# Altium footprint library VHF_AMP_lib.PcbLib: 10 footprints
Each footprint in its own frame and in the unit in brackets; x right, y up, seen from the top. Pads: shape width x height; smd on the part's side, far side on the other; paste and mask are expansions set on the pad; w line width, h text height; cw(c..) or ccw(c..) is an arc to the next point about the centre after c.
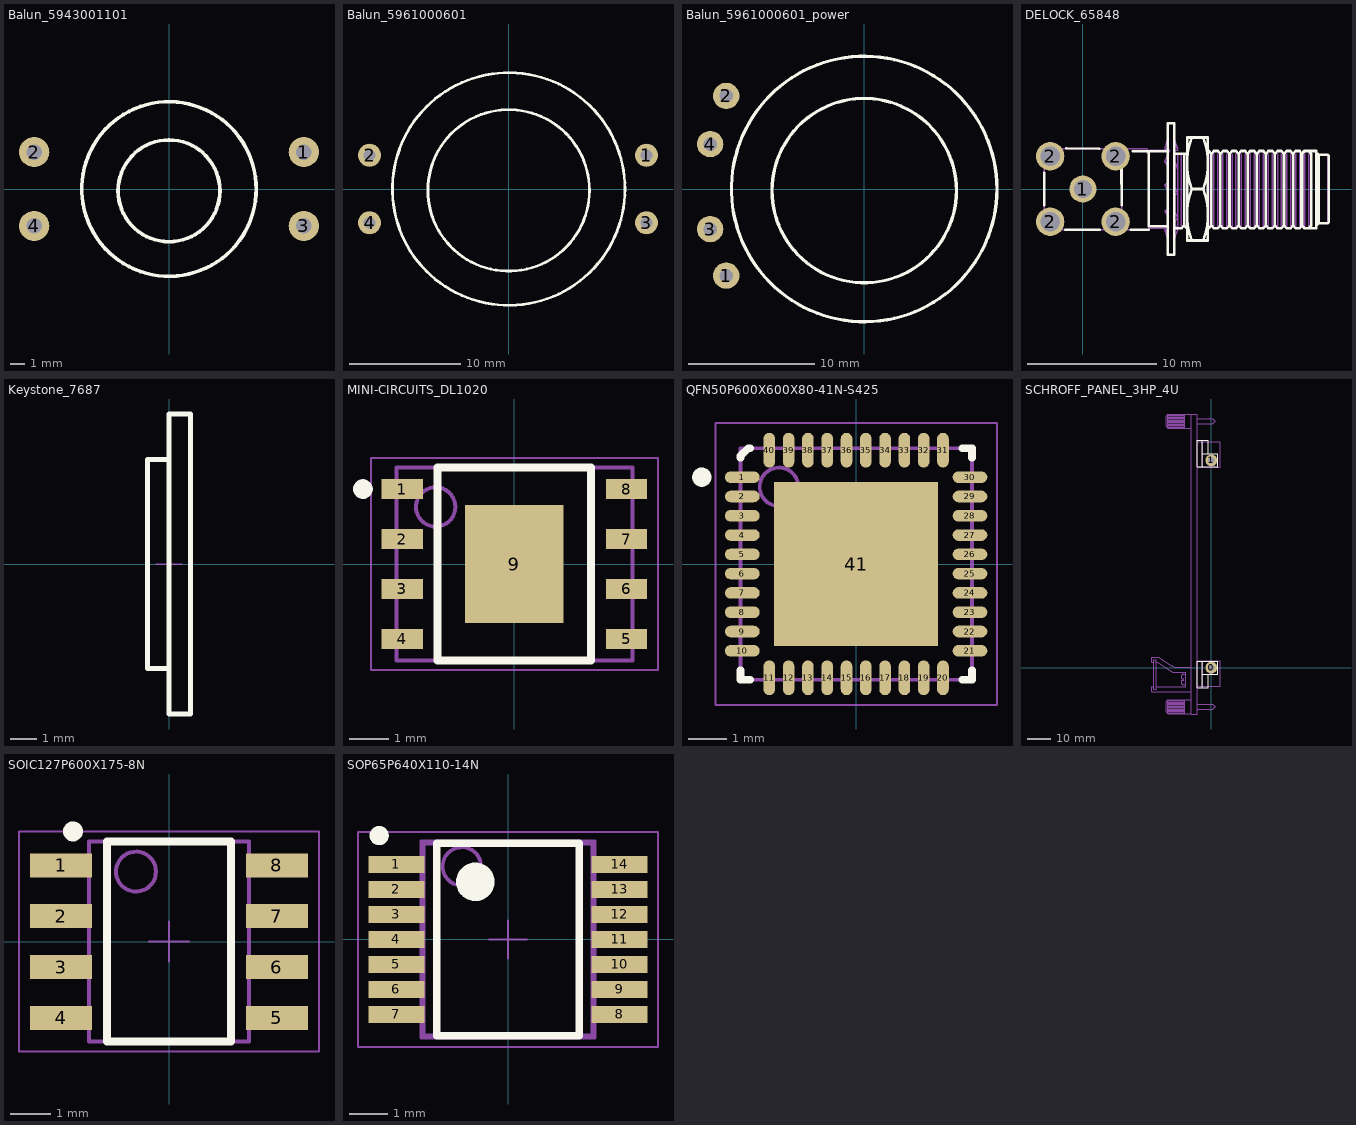
[diagram p0: the footprints below, top view; thin cyan lines are the x and y axes]

## Balun_5943001101 [mil]
pads (4):
  round 82 hole 42: 1(365,100) 2(-365,100) 3(365,-100) 4(-365,-100)
Top Overlay:
  circle w10: c0,0 r236.22
  circle w10: c0,-5 r137.8
3D body: height 236.22, standoff 0, extent -236.21,-236.21 236.23,236.23

## Balun_5961000601 [mil]
pads (4):
  round 82 hole 42: 1(490,120) 2(-495,120) 3(490,-120) 4(-495,-120)
Top Overlay:
  circle w10: c0,0 r413.67
  circle w10: c0,-5 r287.27
3D body "5943007601.stp": height 539.37, standoff 39.37, extent -435.04,-435.04 435.04,435.04

## Balun_5961000601_power [mil]
pads (4):
  round 82 hole 42: 1(-430,-270) 2(-430,290) 3(-480,-125) 4(-480,140)
Top Overlay:
  circle w10: c0,0 r413.67
  circle w10: c0,-5 r287.27
3D body "5943007601.stp": height 539.37, standoff 39.37, extent -435.04,-435.04 435.04,435.04

## DELOCK_65848 [mm] "50 Ohm Through Hole SMA Right Angle PCB Jack"
height 12.4
pads (5):
  round 2.1 hole 1.4: 1(0,0)
  round 2.2 hole 1.5: 2(-2.54,-2.54) 2(-2.54,2.54) 2(2.54,-2.54) 2(2.54,2.54)
Top Overlay:
  lines w0.2: -3,-1.25 -3,1.248 ; -1.359,-3.148 1.324,-3.148 ; -1.295,3.148 1.27,3.134 ; 2.975,3.175 3.06,3.175 ; 3,1.95 3.025,-1.265 ; 3.734,-3.148 5.1,-3.148 ; 3.873,2.925 6.6,2.925 ; 5.1,2.925 5.1,-2.9 6.6,-2.9 ; 7.1,-3.05 7.655,-3.05 7.855,-2.825 ; 7.1,2.75 8.1,2.75 ; 7.855,2.75 7.855,-2.825 ; 8.1,-3.05 8.056,-3.05 7.855,-2.825 ; 8.457,-4 cw(c13.877,-2) 8.457,0 ; 8.457,4 ccw(c13.877,2) 8.457,0 ; 9.343,-4 ccw(c3.923,-2) 9.343,0 ; 9.343,4 cw(c3.923,2) 9.343,0 ; 9.7,-3.05 9.771,-3.05 9.972,-2.825 ; 9.7,2.95 9.771,2.95 9.972,2.725 10.173,2.95 10.477,2.95 10.678,2.725 10.878,2.95 11.182,2.95 11.383,2.725 11.584,2.95 11.888,2.95 12.089,2.725 12.289,2.95 12.593,2.95 12.794,2.725 12.995,2.95 13.299,2.95 13.5,2.725 13.701,2.95 14.005,2.95 14.205,2.725 14.406,2.95 14.71,2.95 14.911,2.725 15.112,2.95 15.416,2.95 15.616,2.725 15.817,2.95 16.121,2.95 16.322,2.725 16.523,2.95 16.827,2.95 17.028,2.725 17.228,2.95 17.532,2.95 17.733,2.725 ; 9.972,2.75 9.972,-2.825 ; 10.678,2.75 10.678,-2.825 ; 11.383,2.75 11.383,-2.825 ; 12.089,2.75 12.089,-2.825 ; 12.794,2.75 12.794,-2.825 ; 13.5,2.75 13.5,-2.825 ; 14.205,2.75 14.205,-2.825 ; 14.911,2.75 14.911,-2.825 ; 15.616,2.75 15.616,-2.825 ; 16.322,2.75 16.322,-2.825 ; 16.972,2.725 17.173,2.95 18.107,2.95 18.107,-2.85 ; 16.972,2.75 16.972,-2.825 17.173,-3.05 18.107,-3.05 18.107,2.75 ; 17.028,2.75 17.028,-2.825 ; 17.733,2.75 17.733,-2.825 17.532,-3.05 17.228,-3.05 17.028,-2.825 ; 18.107,-2.858 18.3,-2.675 18.3,2.675 18.221,2.75 ; 18.3,-2.665 19,-2.665 19.1,-2.565 19.1,2.565 19,2.665 18.3,2.665 ; 8.457,0 9.343,0 ; 9.972,-2.825 10.173,-3.05 10.477,-3.05 10.678,-2.825 ; 10.678,-2.825 10.878,-3.05 11.182,-3.05 11.383,-2.825 ; 11.383,-2.825 11.584,-3.05 11.888,-3.05 12.089,-2.825 ; 12.089,-2.825 12.289,-3.05 12.593,-3.05 12.794,-2.825 ; 12.794,-2.825 12.995,-3.05 13.299,-3.05 13.5,-2.825 ; 13.5,-2.825 13.701,-3.05 14.005,-3.05 14.205,-2.825 ; 14.205,-2.825 14.406,-3.05 14.71,-3.05 14.911,-2.825 ; 14.911,-2.825 15.112,-3.05 15.416,-3.05 15.616,-2.825 ; 15.616,-2.825 15.817,-3.05 16.121,-3.05 16.322,-2.825 ; 16.322,-2.825 16.523,-3.05 16.827,-3.05 17.028,-2.825 ; 6.6,-5.1 6.6,5.1 7.1,5.1 7.1,-5.1 6.6,-5.1 ; 8.1,-4 8.1,4 9.7,4 9.7,-4 8.1,-4
Mechanical 8:
  lines w0.1: -3.2,-2.03 -2.03,-2.03 ; -3.2,2.03 -2.03,2.03 ; -3.04,-2.54 -2.54,-2.54 ; -3.04,2.54 -2.54,2.54 ; -2.54,-3.04 -2.54,-2.54 ; -2.54,-2.04 -2.54,-2.54 ; -2.54,2.04 -2.54,2.54 ; -2.54,3.04 -2.54,2.54 ; -2.04,-2.54 -2.54,-2.54 ; -2.04,2.54 -2.54,2.54 ; -0.5,0 0,0 ; 0,-0.5 0,0 ; 0,0.5 0,0 ; 0.5,0 0,0 ; 2.03,2.03 3,2.03 ; 2.04,-2.54 2.54,-2.54 ; 2.04,2.54 2.54,2.54 ; 2.54,-3.04 2.54,-2.54 ; 2.54,-2.04 2.54,-2.54 ; 2.54,2.04 2.54,2.54 ; 2.54,3.04 2.54,2.54 ; 3.04,-2.54 2.54,-2.54 ; 3.04,2.54 2.54,2.54
Mechanical 14:
  drawing of 155 lines, arcs and shapes, not listed
3D body "SMA_Delock_65848.step": height 9.15, standoff -2.99, extent -3.04,-3.174 18.96,3.094

## Keystone_7687 [mm] "Polyphenylene Sulfide PPS Shoulder Washer"
height 8
Top Overlay:
  lines w0.2: 0,-3.9 -0.8,-3.9 -0.8,3.9 0,3.9 ; 0,-5.6 0,5.6 0.8,5.6 0.8,-5.6 0,-5.6
Mechanical 8:
  lines w0.05: -0.5,0 0,0 ; 0,-0.5 0,0 ; 0,0.5 0,0 ; 0.5,0 0,0
Mechanical 14:
  lines w0.1: 0,-3.9 -0.8,-3.9 -0.8,3.9 0,3.9 ; 0,-5.6 0,5.6 0.8,5.6 0.8,-5.6 0,-5.6

## MINI-CIRCUITS_DL1020 [mm] "SON, 1.27mm Pitch; 8 Pin, 6mm W X 4.9mm L X 0.90mm H body (w/Thermal Tab 2.5 X 3.0mm), IPC Medium Density"
height 0.9
pads (9):
  rect 1.05x0.5 smd: 1(-2.85,1.905) 2(-2.85,0.635) 3(-2.85,-0.635) 4(-2.85,-1.905) 5(2.85,-1.905) 6(2.85,-0.635) 7(2.85,0.635) 8(2.85,1.905)
  rect 2.5x3 smd: 9(0,0)
Top Overlay:
  circle w0.25: c-3.85,1.905 r0.125
  lines w0.2: -1.95,-2.45 1.95,-2.45 1.95,2.45 -1.95,2.45 -1.95,-2.45
Mechanical 8:
  lines w0.05: -0.5,0 0.5,0 ; 0,-0.5 0,0.5
Mechanical 14:
  circle w0.1: c-2,1.45 r0.5
  lines w0.1: -3,-2.45 3,-2.45 3,2.45 -3,2.45 -3,-2.45
Mechanical 15:
  lines w0.05: -3.65,-2.7 3.65,-2.7 3.65,2.7 -3.65,2.7 -3.65,-2.7
3D body "MINI-CIRCUITS_DL1020.stp": height 0.9, standoff 0, extent -3,-2.45 3,2.45

## QFN50P600X600X80-41N-S425 [mm] "QFN, 0.50mm Pitch, Square; 40 Pin, 6.00mm L X 6.00mm W X 0.80mm H body (w/Thermal Tab 4.25 x 4.25mm), IPC Medium Density"
height 1
pads (41):
  oval 0.9x0.3 smd: 1(-2.95,2.25) 2(-2.95,1.75) 3(-2.95,1.25) 4(-2.95,0.75) 5(-2.95,0.25) 6(-2.95,-0.25) 7(-2.95,-0.75) 8(-2.95,-1.25) 9(-2.95,-1.75) 10(-2.95,-2.25) 21(2.95,-2.25) 22(2.95,-1.75) 23(2.95,-1.25) 24(2.95,-0.75) 25(2.95,-0.25) 26(2.95,0.25) 27(2.95,0.75) 28(2.95,1.25) 29(2.95,1.75) 30(2.95,2.25)
  oval 0.3x0.9 smd: 11(-2.25,-2.95) 12(-1.75,-2.95) 13(-1.25,-2.95) 14(-0.75,-2.95) 15(-0.25,-2.95) 16(0.25,-2.95) 17(0.75,-2.95) 18(1.25,-2.95) 19(1.75,-2.95) 20(2.25,-2.95) 31(2.25,2.95) 32(1.75,2.95) 33(1.25,2.95) 34(0.75,2.95) 35(0.25,2.95) 36(-0.25,2.95) 37(-0.75,2.95) 38(-1.25,2.95) 39(-1.75,2.95) 40(-2.25,2.95)
  rect 4.25x4.25 smd: 41(0,0)
Top Overlay:
  circle w0.25: c-4,2.25 r0.125
  lines w0.2: -3,-2.75 -3,-3 -2.75,-3 ; -3,2.75 -3,2.8 -2.8,3 -2.75,3 ; 2.75,-3 3,-3 3,-2.75 ; 2.75,3 3,3 3,2.75
Mechanical 14:
  circle w0.1: c-2,2 r0.5
  lines w0.1: -3,-3 -3,3 3,3 3,-3 -3,-3
Mechanical 15:
  circle w0.05: c0,0 r0.35
  lines w0.05: -0.5,0 0.5,0 ; 0,-0.5 0,0.5 ; -3.65,-3.65 -3.65,3.65 3.65,3.65 3.65,-3.65 -3.65,-3.65
3D body "QFN50P600X600X80-41N-S425.stp": height 0.8, standoff -0.05, extent -3,-3 3,3

## SCHROFF_PANEL_3HP_4U [mm] "Schroff PCB 3HP 4U Eurocard Panel Kit"
height 6.35
pads (2):
  round 5 / inner round 3.7 / far side round 5 hole 2.7: 0(0,0) 1(0,88.9)
Top Overlay:
  lines w0.254: -4.826,-8.6 -6.1,-8.6 ; -4.826,97.5 -6.1,97.5 ; -3.8,-8.6 -3.8,2.75 2.75,2.75 2.75,-2.75 -3.8,-2.75 ; -3.8,91.65 2.75,91.65 2.75,86.15 -3.8,86.15 -3.8,97.5 ; -3.302,2.75 -6.1,2.75 -6.1,-8.6 ; -3.302,86.15 -6.1,86.15 -6.1,97.5 ; -1.21,-2.75 -1.21,-8.6 -6.1,-8.6 ; -1.21,91.65 -1.21,97.5 -6.1,97.5
Mechanical 3:
  circle w0.127: c0,88.9 r2.25
  circle w0.127: c0,0 r2.25
  lines w0.127: -17.104,0.9 ccw(c-14.39,5.1) -14.39,0.1 ; -12.61,-6.85 ccw(c-12.11,-6.85) -12.11,-7.35 ; -12.61,-3.35 cw(c-12.11,-3.35) -12.11,-2.85
  lines w0.152: -24.61,-8.3 -25.61,-8.3 -25.61,-10.3 -8.61,-10.3 ; -24.61,2.4 -25.61,2.4 -25.61,4.4 -22.52,4.4 -17.104,0.9 ; -23.61,-8.3 -11.01,-8.3 -11.01,-1.9 -16.455,-1.9 -23.11,2.4 -23.61,2.4 ; -18.61,-19.3 -11.41,-19.3 ; -18.61,-18.8 -11.41,-18.8 ; -18.61,-18.3 -11.41,-18.3 ; -18.61,-17.8 -11.41,-17.8 ; -18.61,-17.3 -11.41,-17.3 ; -18.61,-16.8 -11.41,-16.8 ; -18.61,-16.3 -11.41,-16.3 ; -18.61,-15.8 -11.41,-15.8 ; -18.61,-15.3 -11.41,-15.3 ; -18.61,-14.8 -11.41,-14.8 ; -18.61,-14.3 -11.41,-14.3 ; -18.61,103.2 -11.41,103.2 ; -18.61,103.7 -11.41,103.7 ; -18.61,104.2 -11.41,104.2 ; -18.61,104.7 -11.41,104.7 ; -18.61,105.2 -11.41,105.2 ; -18.61,105.7 -11.41,105.7 ; -18.61,106.2 -11.41,106.2 ; -18.61,106.7 -11.41,106.7 ; -18.61,107.2 -11.41,107.2 ; -18.61,107.7 -11.41,107.7 ; -18.61,108.2 -11.41,108.2 ; -14.39,0.1 -8.61,0.1 ; -12.61,-6.85 -12.61,-5.5 -11.81,-5.5 -11.81,-4.7 -12.61,-4.7 -12.61,-3.35 ; -12.11,-7.35 -11.01,-7.35 -11.01,-2.85 -12.11,-2.85 ; -6.11,-17.8 0.59,-17.8 1.59,-16.8 0.59,-15.8 -6.11,-15.8 ; -6.11,-8.1 3.89,-8.1 3.89,2.9 -6.11,2.9 ; -6.11,104.7 0.59,104.7 1.59,105.7 0.59,106.7 -6.11,106.7 ; -3.57,-8.1 -3.57,2.9 ; -3.57,86 -3.57,97 ; -1.905,-1.198 1.198,1.905 ; -1.905,87.702 1.198,90.805 ; -1.198,-1.905 1.905,1.198 ; -1.198,86.995 1.905,90.098 ; -18.61,-19.8 -19.41,-19 -19.41,-14.6 -18.61,-13.8 ; -18.61,-19.8 -18.61,-13.8 ; -18.61,-19.8 -11.41,-19.8 ; -18.61,-13.8 -11.41,-13.8 ; -18.61,102.7 -19.41,103.5 -19.41,107.9 -18.61,108.7 ; -18.61,102.7 -18.61,108.7 ; -18.61,102.7 -11.41,102.7 ; -18.61,108.7 -11.41,108.7 ; -11.41,-19.8 -8.61,-19.8 -8.61,-13.8 -11.41,-13.8 ; -11.41,-19.8 -11.41,-13.8 ; -11.41,102.7 -8.61,102.7 -8.61,108.7 -11.41,108.7 ; -11.41,102.7 -11.41,108.7 ; -24.61,-9.25 -23.61,-9.25 -23.61,3.35 -24.61,3.35 -24.61,-9.25 ; -8.61,-19.9 -6.11,-19.9 -6.11,108.8 -8.61,108.8 -8.61,-19.9 ; -6.11,86 3.89,86 3.89,97 -6.11,97 -6.11,86

## SOIC127P600X175-8N [mm] "SOIC 8, Pitch 1.27mm - Body 4x5mm, IPC Medium Density"
height 1.75
pads (8):
  rect 1.55x0.6 smd: 1(-2.7,1.905) 2(-2.7,0.635) 3(-2.7,-0.635) 4(-2.7,-1.905) 5(2.7,-1.905) 6(2.7,-0.635) 7(2.7,0.635) 8(2.7,1.905)
Top Overlay:
  circle w0.25: c-2.4,2.755 r0.125
  lines w0.2: -1.55,-2.5 -1.55,2.5 1.55,2.5 1.55,-2.5 -1.55,-2.5
Mechanical 14:
  circle w0.1: c-0.825,1.75 r0.5
  lines w0.1: -2,-2.5 -2,2.5 2,2.5 2,-2.5 -2,-2.5
Mechanical 15:
  lines w0.05: -0.5,0 0.5,0 ; 0,-0.5 0,0.5 ; -3.75,-2.75 -3.75,2.75 3.75,2.75 3.75,-2.75 -3.75,-2.75
3D body "SOIC127P600X175-8N.stp": height 1.75, standoff 0, extent -3.1,-2.5 3.1,2.5

## SOP65P640X110-14N [mm] "SOP, 14-Leads, Body 4.4x5mm (max), Pitch 0.65mm, IPC Medium Density"
height 1.1
pads (14):
  rect 1.45x0.45 smd: 1(-2.9,1.95) 2(-2.9,1.3) 3(-2.9,0.65) 4(-2.9,0) 5(-2.9,-0.65) 6(-2.9,-1.3) 7(-2.9,-1.95) 8(2.9,-1.95) 9(2.9,-1.3) 10(2.9,-0.65) 11(2.9,0) 12(2.9,0.65) 13(2.9,1.3) 14(2.9,1.95)
Top Overlay:
  circle w0.25: c-3.35,2.7 r0.125
  circle w0.5: c-0.85,1.5 r0.25
  lines w0.2: -1.85,-2.5 -1.85,2.5 1.85,2.5 1.85,-2.5 -1.85,-2.5
Mechanical 14:
  circle w0.1: c-1.2,1.9 r0.5
  lines w0.1: -2.25,-2.55 2.25,-2.55 2.25,2.55 -2.25,2.55 -2.25,-2.55 ; -2.2,-2.5 -2.2,2.5 2.2,2.5 2.2,-2.5 -2.2,-2.5
Mechanical 15:
  lines w0.05: -0.5,0 0.5,0 ; 0,-0.5 0,0.5 ; -3.9,-2.8 -3.9,2.8 3.9,2.8 3.9,-2.8 -3.9,-2.8
3D body "SOP65P640X110-14N.stp": height 1.1, standoff 0, extent -3.121,-2.55 3.121,2.55